# Altium schematic symbol library PowerProducts.SCHLIB: 595 symbols (part 6 of 6)

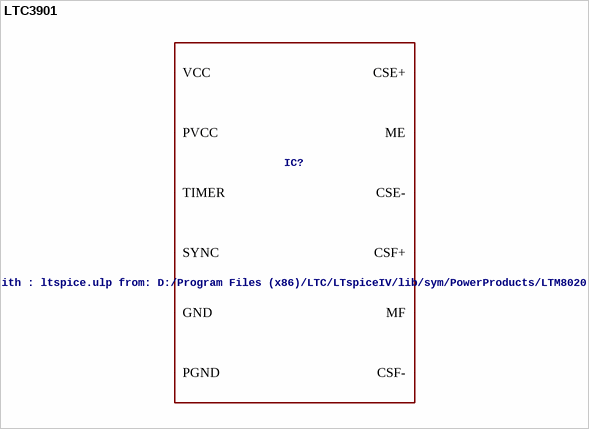
[diagram p112: symbol LTC3901]

## LTC3901
designator IC?, comment LT-Spice library generated with : ltspice.ulp from: D:/Program Files (x86)/LTC/LTspiceIV/lib/sym/PowerProducts/LTM8020*.asy at 07.10.2012 18:50:08
VALUE2: LTC3901; SPICEMODEL: LTC3901.sub; SPICEPREFIX: X
footprint SSOP16(GN)
pins: 1 PVCC, 2 3 ME, 4 13 PGND, 5 CSE-, 6 CSE+, 7 TIMER, 8 10 GND, 9 SYNC, 11 CSF+, 12 CSF-, 14 15 MF, 16 VCC